# EAGLE library part SPARKFUN_NRF52832_BREAKOUT (library SparkFun-Boards-Expanded)
SparkFun nRF52832 Breakout SoC microcontroller with BLE, ANT, Nordic support, and 2.4Ghz multiprotocol radio SparkFun Products: SparkFun nRF52832 Breakout <https://www.sparkfun.com/products/13990>
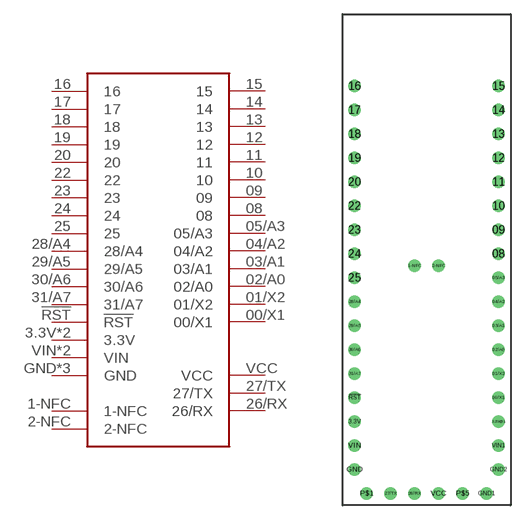
[diagram p16: symbol with the pads of SPARKFUN_NRF52832_BREAKOUT; footprint SPARKFUN_NRF52832_BREAKOUT]

Designator prefix B

## SPARKFUN_NRF52832_BREAKOUT (SF_ID: WRL-13990)  [SPARKFUN_NRF52832_BREAKOUT]
00/X1  00/X1
1-NFC  1-NFC
01/X2  01/X2
2-NFC  2-NFC
02/A0  02/A0
3.3V  3.3V
3.3V@1  3.3V
03/A1  03/A1
04/A2  04/A2
05/A3  05/A3
08  08
09  09
10  10
11  11
12  12
13  13
14  14
15  15
16  16
17  17
18  18
19  19
20  20
22  22
23  23
24  24
25  25
26/RX  26/RX
27/TX  27/TX
28/A4  28/A4
29/A5  29/A5
30/A6  30/A6
31/A7  31/A7
!RST  !RST
GND  GND
GND1  GND
GND2  GND
VCC  VCC
VIN  VIN
VIN1  VIN

## Footprint SPARKFUN_NRF52832_BREAKOUT (pad centres in mm)
SparkFun nRF42832 Breakout Specifications: Pin count:42 Pin pitch: 0.1" Area: 0.7x2.05 Example device(s): SPARKFUN_NRF42832_BREAKOUT
drill 0.8: 00/X1 16.51,11.43; 1-NFC 7.62,25.4; 01/X2 16.51,13.97; 2-NFC 10.16,25.4; 02/A0 16.51,16.51; 3.3V 1.27,8.89; 3.3V@1 16.51,8.89; 03/A1 16.51,19.05; 04/A2 16.51,21.59; 05/A3 16.51,24.13; 08 16.51,26.67; 09 16.51,29.21; 10 16.51,31.75; 11 16.51,34.29; 12 16.51,36.83; 13 16.51,39.37; 14 16.51,41.91; 15 16.51,44.45; 16 1.27,44.45; 17 1.27,41.91; 18 1.27,39.37; 19 1.27,36.83; 20 1.27,34.29; 22 1.27,31.75; 23 1.27,29.21; 24 1.27,26.67; 25 1.27,24.13; 26/RX 7.62,1.27; 27/TX 5.08,1.27; 28/A4 1.27,21.59; 29/A5 1.27,19.05; 30/A6 1.27,16.51; 31/A7 1.27,13.97; !RST 1.27,11.43; GND 1.27,3.81; GND1 15.24,1.27; GND2 16.51,3.81; P$1 2.54,1.27; P$5 12.7,1.27; VCC 10.16,1.27; VIN 1.27,6.35; VIN1 16.51,6.35